# Altium integrated library Altium_SMD_Resister.IntLib: 493 symbols (part 1 of 8)
Pins are listed as number, name and electrical type; pins without a type are passive.

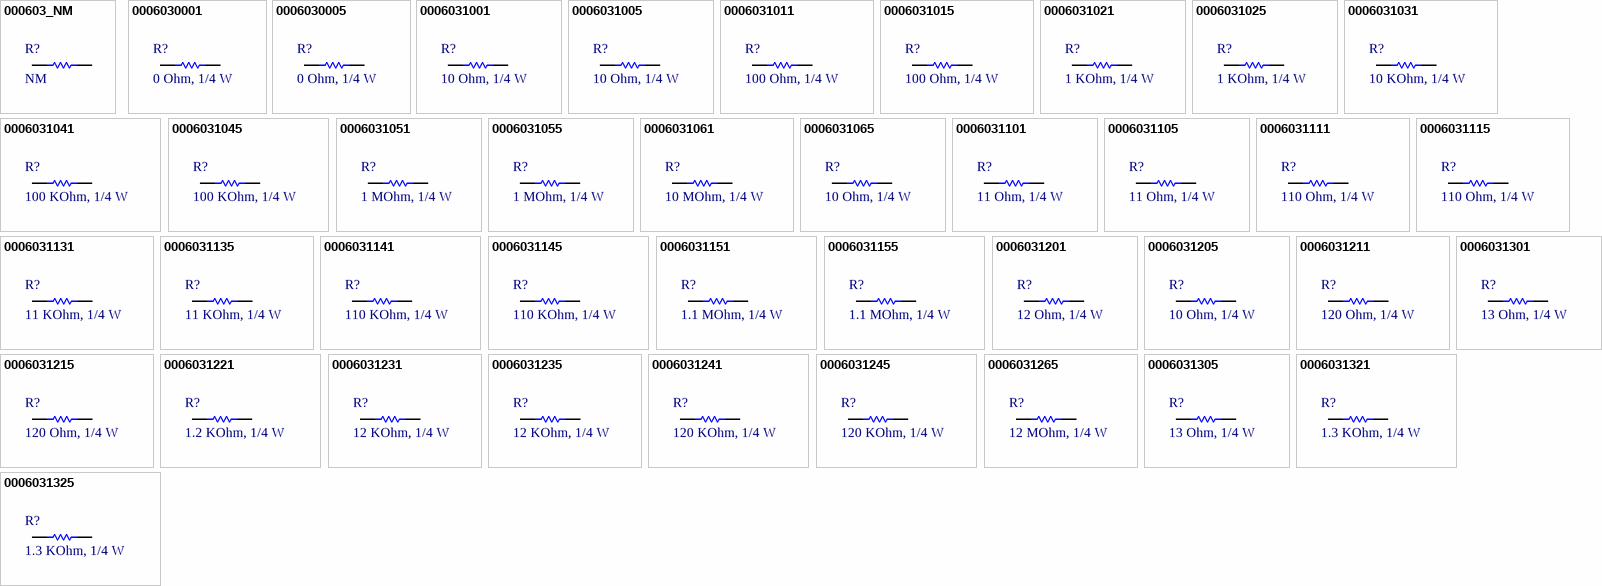
[diagram p0: symbols 000603_NM to 0006031325]

## 000603_NM
designator R?, comment NM
RES, size 0805, NM; Resistance: NM; Resistance Tolerant: N/A; Size: 0603; Rated Power: N/A; Mounting Technology: SMT; Supplier 1 Name: Mouser; Supplier 1 SN: N/A; Supplier 2 Name: Digi-Key; Supplier 2 SN: N/A; Supplier 1 URL: N/A; Supply 2 URL: N/A; Supplier 3 Name: Thegioiic; Supplier 3 SN: N/A; Supplier 3 URL: N/A; Datasheet: N/A; Manufacture  Name: N/A; Manufacture  SN: N/A; Value: NM
footprint resistor_0603
pins: 1, 2

## 0006030001
designator R?, comment 0 Ohm, 1/4 W
RES, size 0805, 0 Ohm, 1/4 W; Manufacture  Name: YAGEO; Manufacture  SN: AC0603FR-070RL; Resistance: 0 Ohm; Resistance Tolerant: +/-1%; Rated Power: 1/4 W; Size: 0603; Mounting Technology: SMT; Supplier 1 Name: Mouser; Supplier 1 SN: 603-AC0603FR-070RL; Supplier 2 Name: Digi-Key; Supplier 2 SN: 311-0.0LDTR-ND; Supplier 1 URL: https://www.mouser.com/ProductDetail/YAGEO/AC0603FR-070RL?qs=sGAEpiMZZMtlubZbdhIBIOG3KwTtqrl%2FD2D%252BGuMCfoY%3D; Supply 2 URL: https://www.digikey.com/en/products/detail/yageo/ac0603fr-070rl/2827812; Supplier 3 Name: Thegioiic; Supplier 3 SN: N/A; Supplier 3 URL: https://www.thegioiic.com/dien-tro-0-ohm-0603-1-; Datasheet: https://www.mouser.com/datasheet/2/447/Yageo_06282023_ACseries-3224032.pdf; Value: 0 Ohm, 1/4 W
footprint resistor_0603
pins: 1, 2

## 0006030005
designator R?, comment 0 Ohm, 1/4 W
RES, size 0805, 0 Ohm, 1/4 W; Manufacture  Name: YAGEO; Manufacture  SN: RC0603JR-070RL; Resistance: 0 Ohm; Resistance Tolerant: +/-1%; Rated Power: 1/4 W; Size: 0603; Mounting Technology: SMT; Supplier 1 Name: Mouser; Supplier 1 SN: 603-RC0603JR-070RL; Supplier 2 Name: Digi-Key; Supplier 2 SN: 311-0.0GRTR-ND; Supplier 1 URL: https://www.mouser.com/ProductDetail/YAGEO/RC0603JR-070RL?qs=2cAdsCoAWRGWyPcuXgGiXQ%3D%3D; Supply 2 URL: https://www.digikey.com/en/products/detail/yageo/rc0603jr-070rl/726675; Supplier 3 Name: Thegioiic; Supplier 3 SN: N/A; Supplier 3 URL: https://www.thegioiic.com/dien-tro-0-ohm-0603-5-; Datasheet: https://www.mouser.com/datasheet/2/447/YAGEO_PYu_RC_Group_51_RoHS_L_12-3313492.pdf; Value: 0 Ohm, 1/4 W
footprint resistor_0603
pins: 1, 2

## 0006031001
designator R?, comment 10 Ohm, 1/4 W
RES, size 0805, 10 Ohm, 1/4 W; Manufacture  Name: YAGEO; Manufacture  SN: SR0603FR-7T10RL; Resistance: 10 Ohm; Resistance Tolerant: +/-1%; Rated Power: 1/4 W; Size: 0603; Mounting Technology: SMT; Supplier 1 Name: Mouser; Supplier 1 SN: 603-SR0603FR-7T10RL; Supplier 2 Name: Digi-Key; Supplier 2 SN: YAG5824TR-ND YAG5824CT-ND YAG5824DKR-ND; Supplier 1 URL: https://www.mouser.vn/ProductDetail/YAGEO/SR0603FR-7T10RL?qs=sGAEpiMZZMvdGkrng054tz1y1XEHv7sNLVh8FRa6mVfbhGJwfIIhGg%3D%3D; Supply 2 URL: https://www.digikey.com/en/products/detail/yageo/SR0603FR-7T10RL/9373098; Supplier 3 Name: Thegioiic; Supplier 3 SN: N/A; Supplier 3 URL: https://www.thegioiic.com/dien-tro-0-ohm-0603-1-; Datasheet: https://www.yageo.com/upload/media/product/productsearch/datasheet/rchip/PYu-SR_20105_RoHS_L_10.pdf; Value: 10 Ohm, 1/4 W
footprint resistor_0603
pins: 1, 2

## 0006031005
designator R?, comment 10 Ohm, 1/4 W
RES, size 0805, 10 Ohm, 1/4 W; Manufacture  Name: Panasonic; Manufacture  SN: ERJ-UP3J100V; Rated Power: 1/4 W; Resistance: 10 Ohm; Resistance Tolerant: +/-5%; Size: 0603; Mounting Technology: SMT; Datasheet: https://www.mouser.vn/datasheet/2/315/Panasonic_Resistors_Thick_Film_Anti_Sulf_Anti_Surg-1825099.pdf; Supplier 1 Name: Mouser; Supplier 1 SN: 667-ERJ-UP3J100V; Supplier 1 URL: https://www.mouser.vn/ProductDetail/Panasonic/ERJ-UP3J100V?qs=GedFDFLaBXHtQF28GWvg8g%3D%3D; Supplier 2 Name: Digi-Key; Supplier 2 SN: 10-ERJ-UP3J100VTR-ND - Tape & Reel (TR); Supply 2 URL: https://www.digikey.com/en/products/detail/panasonic-electronic-components/ERJ-UP3J100V/12092287; Supplier 3 Name: Thegioiic; Supplier 3 SN: N/A; Supplier 3 URL: N/A; Value: 10 Ohm, 1/4 W
footprint resistor_0603
pins: 1, 2

## 0006031011
designator R?, comment 100 Ohm, 1/4 W
RES, size 0805, 100 Ohm, 1/4 W; Manufacture  Name: OEM; Resistance: 100 Ohm; Resistance Tolerant: +/-1%; Rated Power: 1/4 W; Size: 0603; Mounting Technology: SMT; Supplier 1 Name: Mouser; Supplier 1 SN: 603-SR0603FR-7T100RL; Supplier 2 Name: Digi-Key; Supplier 2 SN: YAG5822TR-ND YAG5822CT-ND YAG5822DKR-ND; Supplier 1 URL: https://www.mouser.vn/ProductDetail/YAGEO/SR0603FR-7T100RL?qs=sGAEpiMZZMvdGkrng054tz1y1XEHv7sNOEBvi%2FAEoxbcgRjDGFawVw%3D%3D; Supply 2 URL: https://www.digikey.com/en/products/detail/yageo/SR0603FR-7T100RL/9373096https://www.digikey.com/en/products/detail/yageo/SR0603FR-7T100RL/9373096; Supplier 3 Name: Thegioiic; Supplier 3 SN: N/A; Supplier 3 URL: N/A; Datasheet: https://www.yageo.com/upload/media/product/productsearch/datasheet/rchip/PYu-SR_20105_RoHS_L_10.pdf; Manufacture  SN: OEM; Value: 100 Ohm, 1/4 W
footprint resistor_0603
pins: 1, 2

## 0006031015
designator R?, comment 100 Ohm, 1/4 W
RES, size 0805, 100 Ohm, 1/4 W; Manufacture  Name: Panasonic; Manufacture  SN: ERJ-PA3J101V; Rated Power: 1/4 W; Resistance: 100 Ohm; Resistance Tolerant: +/-5%; Size: 0603; Mounting Technology: SMT; Datasheet: https://www.mouser.vn/datasheet/2/315/AOA0000C331-1141874.pdf; Supplier 1 Name: Mouser; Supplier 1 SN: 667-ERJ-PA3J101V; Supplier 1 URL: https://www.mouser.vn/ProductDetail/Panasonic/ERJ-PA3J101V?qs=sGAEpiMZZMtlubZbdhIBIL24R7XL4VFWZlTxnuJKkJY%3D; Supplier 2 Name: Digi-Key; Supplier 2 SN: P100BZTR-ND - Tape & Reel (TR; Supply 2 URL: https://www.digikey.com/en/products/detail/panasonic-electronic-components/ERJ-PA3J101V/5035969?s=N4IgTCBcDaIGxwOwFoCiAlAUsgCgQQGZMBGABmIDUQBdAXyA; Supplier 3 Name: Thegioiic; Supplier 3 SN: N/A; Supplier 3 URL: https://www.thegioiic.com/dien-tro-100-ohm-1-4w-5-4-vong-mau; Value: 100 Ohm, 1/4 W
footprint resistor_0603
pins: 1, 2

## 0006031021
designator R?, comment 1 KOhm, 1/4 W
RES, size 0805, 1 KOhm, 1/4 W; Manufacture  Name: OEM; Resistance: 1 KOhm; Resistance Tolerant: +/-1%; Rated Power: 1/4 W; Size: 0603; Mounting Technology: SMT; Supplier 1 Name: Mouser; Supplier 1 SN: 71-RCS06031K00FKEA; Supplier 2 Name: Digi-Key; Supplier 2 SN: YAG5829TR-ND YAG5829CT-ND YAG5829DKR-ND; Supplier 1 URL: https://www.mouser.vn/ProductDetail/Vishay-Dale/RCS06031K00FKEA?qs=sGAEpiMZZMvdGkrng054t9clqp6gtJJdzI9PGMrTQi4RTIuHToNahw%3D%3D; Supply 2 URL: https://www.digikey.com/en/products/detail/yageo/SR0603FR-7T1KL/9373103; Supplier 3 Name: Thegioiic; Supplier 3 SN: N/A; Supplier 3 URL: N/A; Datasheet: https://www.yageo.com/upload/media/product/productsearch/datasheet/rchip/PYu-SR_20105_RoHS_L_10.pdf; Manufacture  SN: OEM; Value: 1 KOhm, 1/4 W
footprint resistor_0603
pins: 1, 2

## 0006031025
designator R?, comment 1 KOhm, 1/4 W
RES, size 0805, 1 KOhm, 1/4 W; Manufacture  Name: Panasonic; Manufacture  SN: ERJ-UP3J102V; Rated Power: 1/4 W; Resistance: 1 KOhm; Resistance Tolerant: +/-5%; Size: 0603; Mounting Technology: SMT; Datasheet: https://www.mouser.vn/datasheet/2/315/Panasonic_Resistors_Thick_Film_Anti_Sulf_Anti_Surg-1825099.pdf; Supplier 1 Name: Mouser; Supplier 1 SN: 667-ERJ-UP3J102V; Supplier 1 URL: https://www.mouser.vn/ProductDetail/Panasonic/ERJ-UP3J102V?qs=GedFDFLaBXG0ASpYP%252B3phQ%3D%3D; Supplier 2 Name: Digi-Key; Supplier 2 SN: 667-ERJ-UP3J102V; Supply 2 URL: https://www.mouser.vn/ProductDetail/Panasonic/ERJ-UP3J102V?qs=GedFDFLaBXG0ASpYP%252B3phQ%3D%3D; Supplier 3 Name: Thegioiic; Supplier 3 SN: N/A; Supplier 3 URL: N/A; Value: 1 KOhm, 1/4 W
footprint resistor_0603
pins: 1, 2

## 0006031031
designator R?, comment 10 KOhm, 1/4 W
RES, size 0805, 10 KOhm, 1/4 W; Manufacture  Name: OEM; Resistance: 10 KOhm; Resistance Tolerant: +/-1%; Rated Power: 1/4 W; Size: 0603; Mounting Technology: SMT; Supplier 1 Name: Mouser; Supplier 1 SN: 755-ESR03EZPF1002; Supplier 2 Name: Digi-Key; Supplier 2 SN: RHM10KADTR-ND RHM10KADCT-ND RHM10KADDKR-ND; Supplier 1 URL: https://www.mouser.vn/ProductDetail/ROHM-Semiconductor/ESR03EZPF1002?qs=sGAEpiMZZMvdGkrng054t67Efho1F8r6CDeAsqwFse8%3D; Supply 2 URL: https://www.digikey.com/en/products/detail/rohm-semiconductor/ESR03EZPF1002/1983429; Supplier 3 Name: Thegioiic; Supplier 3 SN: N/A; Supplier 3 URL: N/A; Datasheet: https://fscdn.rohm.com/en/products/databook/datasheet/passive/resistor/chip_resistor/esr-e.pdf; Manufacture  SN: OEM; Value: 10 KOhm, 1/4 W
footprint resistor_0603
pins: 1, 2

## 0006031041
designator R?, comment 100 KOhm, 1/4 W
RES, size 0805, 100 KOhm, 1/4 W; Manufacture  Name: OEM; Resistance Tolerant: +/-1%; Rated Power: 1/4 W; Resistance: 100 KOhm; Size: 0603; Mounting Technology: SMT; Supplier 1 Name: Mouser; Supplier 1 SN: 603-SR0603FR-7T100KL; Supplier 2 Name: Digi-Key; Supplier 2 SN: YAG5821TR-ND YAG5821CT-ND YAG5821DKR-ND; Supplier 1 URL: https://www.mouser.vn/ProductDetail/YAGEO/SR0603FR-7T100KL?qs=sGAEpiMZZMvdGkrng054tz1y1XEHv7sNa%252BA%2F4WiDMf7aGw4zRBb%2FFQ%3D%3D; Supply 2 URL: https://www.digikey.com/en/products/detail/yageo/SR0603FR-7T100KL/9373095; Supplier 3 Name: Thegioiic; Supplier 3 SN: N/A; Supplier 3 URL: N/A; Datasheet: https://www.yageo.com/upload/media/product/productsearch/datasheet/rchip/PYu-SR_20105_RoHS_L_10.pdf; Manufacture  SN: OEM; Value: 100 KOhm, 1/4 W
footprint resistor_0603
pins: 1, 2

## 0006031045
designator R?, comment 100 KOhm, 1/4 W
RES, size 0805, 100 KOhm, 1/4 W; Manufacture  Name: Panasonic; Manufacture  SN: ERJ-UP3J104V; Rated Power: 1/4 W; Resistance Tolerant: +/-5%; Size: 0603; Mounting Technology: SMT; Datasheet: https://www.mouser.vn/datasheet/2/315/Panasonic_Resistors_Thick_Film_Anti_Sulf_Anti_Surg-1825099.pdf; Resistance: 100 KOhm; Supplier 1 Name: Mouser; Supplier 1 SN: 667-ERJ-UP3J104V; Supplier 1 URL: https://www.mouser.vn/ProductDetail/Panasonic/ERJ-UP3J104V?qs=GedFDFLaBXGDblK28z0pnQ%3D%3D; Supplier 2 Name: Digi-Key; Supplier 2 SN: 10-ERJ-UP3J104VTR-ND - Tape & Reel (TR); Supply 2 URL: https://www.digikey.com/en/products/detail/panasonic-electronic-components/ERJ-UP3J104V/12092096?s=N4IgTCBcDaIGxwOwFoCiAlAUsgqgBQGZMBGABgBYA1EAXQF8g; Supplier 3 Name: Thegioiic; Supplier 3 SN: N/A; Supplier 3 URL: https://www.thegioiic.com/dien-tro-100-kohm-0603-5; Value: 100 KOhm, 1/4 W
footprint resistor_0603
pins: 1, 2

## 0006031051
designator R?, comment 1 MOhm, 1/4 W
RES, size 0805, 1 MOhm, 1/4 W; Manufacture  Name: OEM; Resistance: 1 MOhm; Resistance Tolerant: +/-1%; Rated Power: 1/4 W; Size: 0603; Mounting Technology: SMT; Supplier 1 Name: Mouser; Supplier 1 SN: 71-RCS06031M00FKEA; Supplier 2 Name: Digi-Key; Supplier 2 SN: 541-2803-2-ND 541-2803-1-ND 541-2803-6-ND; Supplier 1 URL: https://www.mouser.vn/ProductDetail/Vishay-Dale/RCS06031M00FKEA?qs=sGAEpiMZZMvdGkrng054t9clqp6gtJJdWojIF5doOmwdMUlAJJ6Dlw%3D%3D; Supply 2 URL: https://www.digikey.com/en/products/detail/vishay-dale/RCS06031M00FKEA/5866949; Supplier 3 Name: Thegioiic; Supplier 3 SN: N/A; Supplier 3 URL: N/A; Datasheet: https://www.vishay.com/docs/20065/rcse3.pdf; Manufacture  SN: OEM; Value: 1 MOhm, 1/4 W
footprint resistor_0603
pins: 1, 2

## 0006031055
designator R?, comment 1 MOhm, 1/4 W
RES, size 0805, 1 MOhm, 1/4 W; Manufacture  Name: Panasonic; Manufacture  SN: ERJ-UP3J105V; Rated Power: 1/4 W; Resistance: 1 MOhm; Resistance Tolerant: +/-5%; Size: 0603; Mounting Technology: SMT; Datasheet: https://www.mouser.vn/datasheet/2/315/Panasonic_Resistors_Thick_Film_Anti_Sulf_Anti_Surg-1825099.pdf; Supplier 1 Name: Mouser; Supplier 1 SN: 667-ERJ-UP3J105V; Supplier 1 URL: https://www.mouser.vn/ProductDetail/Panasonic/ERJ-UP3J105V?qs=GedFDFLaBXGINFBXL6YStg%3D%3D; Supplier 2 Name: Digi-Key; Supplier 2 SN: 10-ERJ-UP3J105VTR-ND - Tape & Reel (TR); Supply 2 URL: https://www.digikey.com/en/products/detail/panasonic-electronic-components/ERJ-UP3J105V/12092177?s=N4IgTCBcDaIGxwOwFoCiAlAUsgqgBQGZMBGABgFYA1EAXQF8g; Supplier 3 Name: Thegioiic; Supplier 3 SN: N/A; Supplier 3 URL: N/A; Value: 1 MOhm, 1/4 W
footprint resistor_0603
pins: 1, 2

## 0006031061
designator R?, comment 10 MOhm, 1/4 W
RES, size 0805, 10 MOhm, 1/4 W; Manufacture  Name: OEM; Resistance: 10 MOhm; Resistance Tolerant: +/-1%; Rated Power: 1/4 W; Size: 0603; Mounting Technology: SMT; Supplier 1 Name: Mouser; Supplier 1 SN: 71-RCS060310M0FKEA; Supplier 2 Name: Digi-Key; Supplier 2 SN: 541-2804-2-ND 541-2804-1-ND 541-2804-6-ND; Supplier 1 URL: https://www.mouser.vn/ProductDetail/Vishay-Dale/RCS060310M0FKEA?qs=sGAEpiMZZMvdGkrng054t9clqp6gtJJdahPuycv0ny4pNSNwsAhz7w%3D%3D; Supply 2 URL: https://www.digikey.com/en/products/detail/vishay-dale/RCS060310M0FKEA/5866950; Supplier 3 Name: Thegioiic; Supplier 3 SN: N/A; Supplier 3 URL: N/A; Datasheet: https://www.vishay.com/docs/20065/rcse3.pdf; Manufacture  SN: OEM; Value: 10 MOhm, 1/4 W
footprint resistor_0603
pins: 1, 2

## 0006031065
designator R?, comment 10 Ohm, 1/4 W
RES, size 0805, 10 Ohm, 1/4 W; Manufacture  Name: Panasonic; Manufacture  SN: ERJ-UP3J100V; Rated Power: 1/4 W; Resistance: 10 Ohm; Resistance Tolerant: +/-5%; Size: 0603; Mounting Technology: SMT; Datasheet: https://www.mouser.vn/datasheet/2/315/Panasonic_Resistors_Thick_Film_Anti_Sulf_Anti_Surg-1825099.pdf; Supplier 1 Name: Mouser; Supplier 1 SN: 667-ERJ-UP3J100V; Supplier 1 URL: https://www.mouser.vn/ProductDetail/Panasonic/ERJ-UP3J100V?qs=GedFDFLaBXHtQF28GWvg8g%3D%3D; Supplier 2 Name: Digi-Key; Supplier 2 SN: 10-ERJ-UP3J100VTR-ND - Tape & Reel (TR); Supply 2 URL: https://www.digikey.com/en/products/detail/panasonic-electronic-components/ERJ-UP3J100V/12092287; Supplier 3 Name: Thegioiic; Supplier 3 SN: N/A; Supplier 3 URL: N/A; Value: 10 Ohm, 1/4 W
footprint resistor_0603
pins: 1, 2

## 0006031101
designator R?, comment 11 Ohm, 1/4 W
RES, size 0805, 11 Ohm, 1/4 W; Manufacture  Name: OEM; Rated Power: 1/4 W; Resistance: 11 Ohm; Resistance Tolerant: +/-1%; Size: 0603; Mounting Technology: SMT; Datasheet: N/A; Supplier 1 Name: Mouser; Supplier 1 SN: 667-ERJ-H3EF11R0V; Supplier 1 URL: https://www.mouser.vn/ProductDetail/Panasonic/ERJ-H3EF11R0V?qs=sGAEpiMZZMtlubZbdhIBIGXWvNSLmQjehAx4Ifbz%252Bvw%3D; Supplier 2 Name: Digi-Key; Supplier 2 SN: 311-11.0HRTR-ND; Supply 2 URL: https://www.digikey.com/en/products/detail/yageo/RC0603FR-0711RL/726896; Supplier 3 Name: Thegioiic; Supplier 3 SN: N/A; Supplier 3 URL: N/A; Manufacture  SN: OEM; Value: 11 Ohm, 1/4 W
footprint resistor_0603
pins: 1, 2

## 0006031105
designator R?, comment 11 Ohm, 1/4 W
RES, size 0805, 11 Ohm, 1/4 W; Manufacture  Name: Panasonic; Manufacture  SN: ERJ-PA3J110V; Rated Power: 1/4 W; Resistance: 11 Ohm; Resistance Tolerant: +/-5%; Size: 0603; Mounting Technology: SMT; Datasheet: https://www.mouser.vn/datasheet/2/315/AOA0000C331-1141874.pdf; Supplier 1 Name: Mouser; Supplier 1 SN: 667-ERJ-PA3J110V; Supplier 1 URL: https://www.mouser.vn/ProductDetail/Panasonic/ERJ-PA3J110V?qs=BzJM0faLVqUVJCFpF2esuw%3D%3D; Supplier 2 Name: Digi-Key; Supplier 2 SN: P11.00BZTR-ND - Tape & Reel (TR); Supply 2 URL: https://www.digikey.com/en/products/detail/panasonic-electronic-components/ERJ-PA3J110V/5035974?s=N4IgTCBcDaIKICUBSBaACgQQMxIIy4AYA1EAXQF8g; Supplier 3 Name: Thegioiic; Supplier 3 SN: N/A; Supplier 3 URL: N/A; Value: 11 Ohm, 1/4 W
footprint resistor_0603
pins: 1, 2

## 0006031111
designator R?, comment 110 Ohm, 1/4 W
RES, size 0805, 110 Ohm, 1/4 W; Manufacture  Name: OEM; Rated Power: 1/4 W; Resistance: 110 Ohm; Resistance Tolerant: +/-1%; Size: 0603; Mounting Technology: SMT; Datasheet: N/A; Supplier 1 Name: Mouser; Supplier 1 SN: 755-SDR03EZPF1100; Supplier 1 URL: https://www.mouser.vn/ProductDetail/ROHM-Semiconductor/SDR03EZPF1100?qs=sGAEpiMZZMtlubZbdhIBIK8AeiPKd8jI%252BjeyNdNREGg%3D; Supplier 2 Name: Digi-Key; Supplier 2 SN: 13-RC0603FR-13110RLTR-ND; Supply 2 URL: https://www.digikey.com/en/products/detail/yageo/RC0603FR-13110RL/14286378; Supplier 3 Name: Thegioiic; Supplier 3 SN: N/A; Supplier 3 URL: N/A; Manufacture  SN: OEM; Value: 110 Ohm, 1/4 W
footprint resistor_0603
pins: 1, 2

## 0006031115
designator R?, comment 110 Ohm, 1/4 W
RES, size 0805, 110 Ohm, 1/4 W; Manufacture  Name: Panasonic; Manufacture  SN: ERJ-PA3J111V; Rated Power: 1/4 W; Resistance: 110 Ohm; Resistance Tolerant: +/-5%; Size: 0603; Mounting Technology: SMT; Datasheet: https://www.mouser.vn/datasheet/2/315/AOA0000C331-1141874.pdf; Supplier 1 Name: Mouser; Supplier 1 SN: 667-ERJ-PA3J111V; Supplier 1 URL: https://www.mouser.vn/ProductDetail/Panasonic/ERJ-PA3J111V?qs=BzJM0faLVqVWsrK26X2SBg%3D%3D; Supplier 2 Name: Digi-Key; Supplier 2 SN: P110BZTR-ND - Tape & Reel (TR); Supply 2 URL: https://www.digikey.com/en/products/detail/panasonic-electronic-components/ERJ-PA3J110V/5035974?s=N4IgTCBcDaIKICUBSBaACgQQMxIIy4AYA1EAXQF8g; Supplier 3 Name: Thegioiic; Supplier 3 SN: N/A; Supplier 3 URL: N/A; Value: 110 Ohm, 1/4 W
footprint resistor_0603
pins: 1, 2

## 0006031131
designator R?, comment 11 KOhm, 1/4 W
RES, size 0805, 11 KOhm, 1/4 W; Manufacture  Name: OEM; Rated Power: 1/4 W; Resistance: 11 KOhm; Resistance Tolerant: +/-1%; Size: 0603; Mounting Technology: SMT; Datasheet: N/A; Supplier 1 Name: Mouser; Supplier 1 SN: 755-SDR03EZPF1102; Supplier 1 URL: https://www.mouser.vn/ProductDetail/ROHM-Semiconductor/SDR03EZPF1102?qs=sGAEpiMZZMtlubZbdhIBIPTwcdbU5mXWlesgK7T9hPY%3D; Supplier 2 Name: Digi-Key; Supplier 2 SN: 311-11.0KHRTR-ND; Supply 2 URL: https://www.digikey.com/en/products/detail/yageo/RC0603FR-0711KL/726897; Supplier 3 Name: Thegioiic; Supplier 3 SN: N/A; Supplier 3 URL: N/A; Manufacture  SN: OEM; Value: 11 KOhm, 1/4 W
footprint resistor_0603
pins: 1, 2

## 0006031135
designator R?, comment 11 KOhm, 1/4 W
RES, size 0805, 11 KOhm, 1/4 W; Manufacture  Name: Panasonic; Manufacture  SN: ERJ-PA3J113V; Rated Power: 1/4 W; Resistance: 11 KOhm; Resistance Tolerant: +/-5%; Size: 0603; Mounting Technology: SMT; Datasheet: https://www.mouser.vn/datasheet/2/315/AOA0000C331-1141874.pdf; Supplier 1 Name: Mouser; Supplier 1 SN: ERJ-PA3J113V; Supplier 1 URL: https://www.mouser.vn/ProductDetail/Panasonic/ERJ-PA3J113V?qs=BzJM0faLVqVM8QjVQI3mRg%3D%3D; Supplier 2 Name: Digi-Key; Supplier 2 SN: P11KBZTR-ND - Tape & Reel (TR); Supply 2 URL: https://www.digikey.com/en/products/detail/panasonic-electronic-components/ERJ-PA3J113V/5035977?s=N4IgTCBcDaIGxwOwFoCiAlAUsgCgQQGZMBGYggNRAF0BfIA; Supplier 3 Name: Thegioiic; Supplier 3 SN: N/A; Supplier 3 URL: N/A; Value: 11 KOhm, 1/4 W
footprint resistor_0603
pins: 1, 2

## 0006031141
designator R?, comment 110 KOhm, 1/4 W
RES, size 0805, 110 KOhm, 1/4 W; Manufacture  Name: OEM; Rated Power: 1/4 W; Resistance Tolerant: +/-1%; Size: 0603; Mounting Technology: SMT; Datasheet: N/A; Resistance: 110 KOhm; Supplier 1 Name: Mouser; Supplier 1 SN: 667-ERJ-H3EF1103V; Supplier 1 URL: https://www.mouser.vn/ProductDetail/Panasonic/ERJ-H3EF1103V?qs=sGAEpiMZZMtlubZbdhIBIGXWvNSLmQjenhRG9dQSCBk%3D; Supplier 2 Name: Digi-Key; Supplier 2 SN: 311-110KHRTR-ND; Supply 2 URL: https://www.digikey.com/en/products/detail/yageo/RC0603FR-07110KL/726905; Supplier 3 Name: Thegioiic; Supplier 3 SN: N/A; Supplier 3 URL: N/A; Manufacture  SN: OEM; Value: 110 KOhm, 1/4 W
footprint resistor_0603
pins: 1, 2

## 0006031145
designator R?, comment 110 KOhm, 1/4 W
RES, size 0805, 110 KOhm, 1/4 W; Manufacture  Name: Panasonic; Manufacture  SN: ERJ-PA3J114V; Rated Power: 1/4 W; Resistance Tolerant: +/-5%; Size: 0603; Mounting Technology: SMT; Datasheet: https://www.mouser.vn/datasheet/2/315/AOA0000C331-1141874.pdf; Resistance: 110 KOhm; Supplier 1 Name: Mouser; Supplier 1 SN: 667-ERJ-PA3J114V; Supplier 1 URL: https://www.mouser.vn/ProductDetail/Panasonic/ERJ-PA3J114V?qs=BzJM0faLVqW9SUUBohRIoQ%3D%3D; Supplier 2 Name: Digi-Key; Supplier 2 SN: P110KBZTR-ND - Tape & Reel (TR); Supply 2 URL: https://www.digikey.com/en/products/detail/panasonic-electronic-components/ERJ-PA3J114V/5035978?s=N4IgTCBcDaIGxwOwFoCiAlAUsgCgQQGZMBGYgFgDUQBdAXyA; Supplier 3 Name: Thegioiic; Supplier 3 SN: N/A; Supplier 3 URL: N/A; Value: 110 KOhm, 1/4 W
footprint resistor_0603
pins: 1, 2

## 0006031151
designator R?, comment 1.1 MOhm, 1/4 W
RES, size 0805, 1.1 MOhm, 1/4 W; Manufacture  Name: OEM; Resistance Tolerant: +/-1%; Rated Power: 1/4 W; Resistance: 1.1 MOhm; Size: 0603; Mounting Technology: SMT; Supplier 1 Name: Mouser; Supplier 1 SN: 755-ESR03EZPF1104; Supplier 2 Name: Digi-Key; Supplier 2 SN: ESR03EZPF1104-ND; Supplier 1 URL: https://www.mouser.vn/ProductDetail/ROHM-Semiconductor/ESR03EZPF1104?qs=sGAEpiMZZMvdGkrng054tywGjayRHxH2NDi0T%2FrU%252Bi%2FZqTg7cSJ0BA%3D%3D; Supply 2 URL: https://www.digikey.com/en/products/detail/rohm-semiconductor/ESR03EZPF1104/4007150?s=N4IgjCBcoExaBjKAzAhgGwM4FMA0IB7KAbXADYBWAFgGYQBdfABwBcoQBlFgJwEsA7AOYgAvvjrQQSSGix5CJcGBoRGIVuy58ho-GBgBOCJOmyc%2BIpFI0DMKhQbM2kTjwHCxIGAAYAHA5MUDHMFK3AAOjAAAgBZAHkACwBbTEd1ZxAAVX5eFjjkGOxUTABXbmxRTzgw8sxeTBYCbgYRIA; Supplier 3 Name: Thegioiic; Supplier 3 SN: N/A; Supplier 3 URL: N/A; Datasheet: https://www.mouser.vn/datasheet/2/348/ROHM_S_A0011075102_1-2563252.pdf; Manufacture  SN: OEM; Value: 1.1 MOhm, 1/4 W
footprint resistor_0603
pins: 1, 2

## 0006031155
designator R?, comment 1.1 MOhm, 1/4 W
RES, size 0805, 1.1 MOhm, 1/4 W; Manufacture  Name: Panasonic; Manufacture  SN: ERJ-PA3J115V; Rated Power: 1/4 W; Resistance Tolerant: +/-5%; Size: 0603; Mounting Technology: SMT; Datasheet: https://www.mouser.vn/datasheet/2/315/AOA0000C331-1141874.pdf; Resistance: 1.1 MOhm; Supplier 1 Name: Mouser; Supplier 1 SN: 667-ERJ-PA3J115V; Supplier 1 URL: https://www.mouser.vn/ProductDetail/Panasonic/ERJ-PA3J115V?qs=qSfuJ%252Bfl%2Fd52nzS52dr8qA%3D%3D; Supplier 2 Name: Digi-Key; Supplier 2 SN: P124098TR-ND - Tape & Reel (TR); Supply 2 URL: https://www.digikey.com/en/products/detail/panasonic-electronic-components/ERJ-PA3J115V/9694904?s=N4IgTCBcDaIGxwOwFoCiAlAUsgCgQQGZMBGYgVgDUQBdAXyA; Supplier 3 Name: Thegioiic; Supplier 3 SN: N/A; Supplier 3 URL: N/A; Value: 1.1 MOhm, 1/4 W
footprint resistor_0603
pins: 1, 2

## 0006031201
designator R?, comment 12 Ohm, 1/4 W
RES, size 0805, 12 Ohm, 1/4 W; Manufacture  Name: OEM; Resistance: 12 Ohm; Resistance Tolerant: +/-1%; Rated Power: 1/4 W; Size: 0603; Mounting Technology: SMT; Supplier 1 Name: Mouser; Supplier 1 SN: 71-RCS060312R0FKEA; Supplier 2 Name: Digi-Key; Supplier 2 SN: 541-10429-2-ND 541-10429-1-ND 541-10429-6-ND; Supplier 1 URL: https://www.mouser.vn/ProductDetail/Vishay-Dale/RCS060312R0FKEA?qs=sGAEpiMZZMvdGkrng054txfS%2FhNqc3c5FTsHeTNyRUP0%2FMnOe8KtUg%3D%3D; Supply 2 URL: https://www.digikey.com/en/products/detail/vishay-dale/RCS060312R0FKEA/5868272; Supplier 3 Name: Thegioiic; Supplier 3 SN: N/A; Supplier 3 URL: N/A; Datasheet: https://www.vishay.com/docs/20065/rcse3.pdf; Manufacture  SN: OEM; Value: 12 Ohm, 1/4 W
footprint resistor_0603
pins: 1, 2

## 0006031205
designator R?, comment 10 Ohm, 1/4 W
RES, size 0805, 10 Ohm, 1/4 W; Manufacture  Name: Panasonic; Manufacture  SN: ERJ-PA3J120V; Rated Power: 1/4 W; Resistance: 10 Ohm; Resistance Tolerant: +/-5%; Size: 0603; Mounting Technology: SMT; Datasheet: https://www.mouser.vn/datasheet/2/315/AOA0000C331-1141874.pdf; Supplier 1 Name: Mouser; Supplier 1 SN: https://www.mouser.vn/ProductDetail/Panasonic/ERJ-PA3J120V?qs=BzJM0faLVqW1x3yhFHUqTw%3D%3D; Supplier 1 URL: https://www.mouser.vn/ProductDetail/Panasonic/ERJ-PA3J120V?qs=BzJM0faLVqW1x3yhFHUqTw%3D%3D; Supplier 2 Name: Digi-Key; Supplier 2 SN: P12.00BZTR-ND - Tape & Reel (TR); Supply 2 URL: https://www.digikey.com/en/products/detail/panasonic-electronic-components/ERJ-PA3J120V/5035979?s=N4IgTCBcDaIGxwOwFoCiAlAUsgCgQQGZMBGMABgDUQBdAXyA; Supplier 3 Name: Thegioiic; Supplier 3 SN: N/A; Supplier 3 URL: https://www.thegioiic.com/dien-tro-12-ohm-0603-5-; Value: 10 Ohm, 1/4 W
footprint resistor_0603
pins: 1, 2

## 0006031211
designator R?, comment 120 Ohm, 1/4 W
RES, size 0805, 120 Ohm, 1/4 W; Manufacture  Name: OEM; Resistance: 120 Ohm; Resistance Tolerant: +/-1%; Rated Power: 1/4 W; Size: 0603; Mounting Technology: SMT; Supplier 1 Name: Mouser; Supplier 1 SN: 603-SR0603FR-7T120RL; Supplier 2 Name: Digi-Key; Supplier 2 SN: YAG5825TR-ND YAG5825CT-ND YAG5825DKR-ND; Supplier 1 URL: https://www.mouser.vn/ProductDetail/YAGEO/SR0603FR-7T120RL?qs=sGAEpiMZZMvdGkrng054tz1y1XEHv7sNpzSbq0ZWZmOggb8s%252BZMxlg%3D%3D; Supply 2 URL: https://www.digikey.com/en/products/detail/yageo/SR0603FR-7T120RL/9373099; Supplier 3 Name: Thegioiic; Supplier 3 SN: N/A; Supplier 3 URL: N/A; Datasheet: https://www.yageo.com/upload/media/product/productsearch/datasheet/rchip/PYu-SR_20105_RoHS_L_10.pdf; Manufacture  SN: OEM; Value: 120 Ohm, 1/4 W
footprint resistor_0603
pins: 1, 2

## 0006031215
designator R?, comment 120 Ohm, 1/4 W
RES, size 0805, 120 Ohm, 1/4 W; Manufacture  Name: Panasonic; Manufacture  SN: ERJ-PA3J121V; Rated Power: 1/4 W; Resistance: 120 Ohm; Resistance Tolerant: +/-5%; Size: 0603; Mounting Technology: SMT; Datasheet: https://www.mouser.vn/datasheet/2/315/AOA0000C331-1141874.pdf; Supplier 1 Name: Mouser; Supplier 1 SN: 667-ERJ-PA3J121V; Supplier 1 URL: https://www.mouser.vn/ProductDetail/Panasonic/ERJ-PA3J121V?qs=BzJM0faLVqUskHAfNBlRjA%3D%3D; Supplier 2 Name: Digi-Key; Supplier 2 SN: P120BZTR-ND - Tape & Reel (TR); Supply 2 URL: https://www.digikey.com/en/products/detail/panasonic-electronic-components/ERJ-PA3J121V/5035980?s=N4IgTCBcDaIGxwOwFoCiAlAUsgCgQQGZMBGMYgNRAF0BfIA; Supplier 3 Name: Thegioiic; Supplier 3 SN: N/A; Supplier 3 URL: https://www.thegioiic.com/dien-tro-120-ohm-0603-5; Value: 120 Ohm, 1/4 W
footprint resistor_0603
pins: 1, 2

## 0006031221
designator R?, comment 1.2 KOhm, 1/4 W
RES, size 0805, 1.2 KOhm, 1/4 W; Manufacture  Name: OEM; Resistance Tolerant: +/-1%; Rated Power: 1/4 W; Resistance: 1.2 KOhm; Size: 0603; Mounting Technology: SMT; Supplier 1 Name: Mouser; Supplier 1 SN: 667-ERJ-UP3F1201V; Supplier 2 Name: Digi-Key; Supplier 2 SN: 10-ERJ-UP3F1201VTR-ND 10-ERJ-UP3F1201VCT-ND 10-ERJ-UP3F1201VDKR-ND; Supplier 1 URL: https://www.mouser.vn/ProductDetail/Panasonic/ERJ-UP3F1201V?qs=sGAEpiMZZMvdGkrng054twq3eZrCFN895BO3G72d%2F02jECAea43bgQ%3D%3D; Supply 2 URL: N/A; Supplier 3 Name: Thegioiic; Supplier 3 SN: N/A; Supplier 3 URL: N/A; Datasheet: https://api.pim.na.industrial.panasonic.com/file_stream/main/fileversion/4484; Manufacture  SN: OEM; Value: 1.2 KOhm, 1/4 W
footprint resistor_0603
pins: 1, 2

## 0006031231
designator R?, comment 12 KOhm, 1/4 W
RES, size 0805, 12 KOhm, 1/4 W; Manufacture  Name: OEM; Resistance: 12 KOhm; Resistance Tolerant: +/-1%; Rated Power: 1/4 W; Size: 0603; Mounting Technology: SMT; Supplier 1 Name: Mouser; Supplier 1 SN: 71-RCS060312K0FKEA; Supplier 2 Name: Digi-Key; Supplier 2 SN: 541-10428-2-ND 541-10428-1-ND 541-10428-6-ND; Supplier 1 URL: https://www.mouser.vn/ProductDetail/Vishay-Dale/RCS060312K0FKEA?qs=sGAEpiMZZMvdGkrng054t9clqp6gtJJdYU2CGrvXFnAdCOf%2F3daJvA%3D%3D; Supply 2 URL: https://www.digikey.com/en/products/detail/vishay-dale/RCS060312K0FKEA/5868600; Supplier 3 Name: Thegioiic; Supplier 3 SN: N/A; Supplier 3 URL: N/A; Datasheet: https://www.vishay.com/doc?20065; Manufacture  SN: OEM; Value: 12 KOhm, 1/4 W
footprint resistor_0603
pins: 1, 2

## 0006031235
designator R?, comment 12 KOhm, 1/4 W
RES, size 0805, 12 KOhm, 1/4 W; Manufacture  Name: Panasonic; Rated Power: 1/4 W; Resistance: 12 KOhm; Resistance Tolerant: +/-5%; Size: 0603; Mounting Technology: SMT; Datasheet: https://www.mouser.vn/datasheet/2/315/AOA0000C331-1141874.pdf; Supplier 1 Name: Mouser; Supplier 1 SN: 667-ERJ-PA3J123V; Supplier 1 URL: https://www.mouser.vn/ProductDetail/Panasonic/ERJ-PA3J123V?qs=BzJM0faLVqUmhFLBcKz%2F9g%3D%3D; Supplier 2 Name: Digi-Key; Supplier 2 SN: P12KBZTR-ND - Tape & Reel (TR); Supply 2 URL: https://www.digikey.com/en/products/detail/panasonic-electronic-components/ERJ-PA3J123V/5035982?s=N4IgTCBcDaIGxwOwFoCiAlAUsgCgQQGZMBGMAgNRAF0BfIA; Supplier 3 Name: Thegioiic; Supplier 3 SN: N/A; Supplier 3 URL: https://www.thegioiic.com/dien-tro-12-kohm-0603-5; Value: 12 KOhm, 1/4 W
footprint resistor_0603
pins: 1, 2

## 0006031241
designator R?, comment 120 KOhm, 1/4 W
RES, size 0805, 120 KOhm, 1/4 W; Manufacture  Name: OEM; Resistance Tolerant: +/-1%; Rated Power: 1/4 W; Resistance: 120 KOhm; Size: 0603; Mounting Technology: SMT; Supplier 1 Name: Mouser; Supplier 1 SN: 279-CRGP0603F120K; Supplier 2 Name: Digi-Key; Supplier 2 SN: A130441TR-ND A130441CT-ND A130441DKR-ND; Supplier 1 URL: https://www.mouser.vn/ProductDetail/TE-Connectivity-Holsworthy/CRGP0603F120K?qs=sGAEpiMZZMvdGkrng054tz1y1XEHv7sN3VL4vdyfLgCsGGuTshbYRg%3D%3D; Supply 2 URL: https://www.digikey.com/en/products/detail/te-connectivity-passive-product/CRGP0603F120K/8577043; Supplier 3 Name: Thegioiic; Supplier 3 SN: N/A; Supplier 3 URL: N/A; Datasheet: https://www.te.com/usa-en/product-5-2176326-0.datasheet.pdf; Manufacture  SN: OEM; Value: 120 KOhm, 1/4 W
footprint resistor_0603
pins: 1, 2

## 0006031245
designator R?, comment 120 KOhm, 1/4 W
RES, size 0805, 120 KOhm, 1/4 W; Manufacture  Name: Panasonic; Manufacture  SN: ERJ-PA3J124V; Rated Power: 1/4 W; Resistance Tolerant: +/-5%; Size: 0603; Mounting Technology: SMT; Datasheet: https://www.mouser.vn/datasheet/2/315/AOA0000C331-1141874.pdf; Resistance: 120 KOhm; Supplier 1 Name: Mouser; Supplier 1 SN: 667-ERJ-PA3J124V; Supplier 1 URL: https://www.mouser.vn/ProductDetail/Panasonic/ERJ-PA3J124V?qs=BzJM0faLVqW0tp%252B4qebUxw%3D%3D; Supplier 2 Name: Digi-Key; Supplier 2 SN: P120KBZTR-ND - Tape & Reel (TR); Supply 2 URL: https://www.digikey.com/en/products/detail/panasonic-electronic-components/ERJ-PA3J124V/5035983?s=N4IgTCBcDaIGxwOwFoCiAlAUsgCgQQGZMBGMAFgDUQBdAXyA; Supplier 3 Name: Thegioiic; Supplier 3 SN: N/A; Supplier 3 URL: https://www.thegioiic.com/dien-tro-120-kohm-0603-5; Value: 120 KOhm, 1/4 W
footprint resistor_0603
pins: 1, 2

## 0006031265
designator R?, comment 12 MOhm, 1/4 W
RES, size 0805, 12 MOhm, 1/4 W; Manufacture  Name: OEM; Rated Power: 1/4 W; Resistance: 12 MOhm; Resistance Tolerant: +/-5%; Size: 0603; Mounting Technology: SMT; Datasheet: https://www.mouser.vn/datasheet/2/315/Panasonic_Resistors_Thick_Film_Anti_Sulf_Anti_Surg-1825099.pdf; Supplier 1 Name: Mouser; Supplier 1 SN: N/A; Supplier 1 URL: N/A; Supplier 2 Name: Digi-Key; Supplier 2 SN: N/A; Supply 2 URL: N/A; Supplier 3 Name: Thegioiic; Supplier 3 SN: N/A; Supplier 3 URL: N/A; Manufacture  SN: OEM; Value: 12 MOhm, 1/4 W
footprint resistor_0603
pins: 1, 2

## 0006031301
designator R?, comment 13 Ohm, 1/4 W
RES, size 0805, 13 Ohm, 1/4 W; Manufacture  Name: OEM; Rated Power: 1/4 W; Resistance: 13 Ohm; Resistance Tolerant: +/-1%; Size: 0603; Mounting Technology: SMT; Datasheet: N/A; Supplier 1 Name: Mouser; Supplier 1 SN: 667-ERJ-H3EF13R0V; Supplier 1 URL: https://www.mouser.vn/ProductDetail/Panasonic/ERJ-H3EF13R0V?qs=eP2BKZSCXI6cMaSES3PMrQ%3D%3D; Supplier 2 Name: Digi-Key; Supplier 2 SN: 13-RC0603FR-1313RL-ND; Supply 2 URL: https://www.digikey.com/en/products/detail/yageo/RC0603FR-1313RL/17017125; Supplier 3 Name: Thegioiic; Supplier 3 SN: N/A; Supplier 3 URL: N/A; Manufacture  SN: OEM; Value: 13 Ohm, 1/4 W
footprint resistor_0603
pins: 1, 2

## 0006031305
designator R?, comment 13 Ohm, 1/4 W
RES, size 0805, 13 Ohm, 1/4 W; Manufacture  Name: Panasonic; Manufacture  SN: ERJ-PA3J130V; Rated Power: 1/4 W; Resistance: 13 Ohm; Resistance Tolerant: +/-5%; Size: 0603; Mounting Technology: SMT; Datasheet: https://www.mouser.vn/datasheet/2/315/AOA0000C331-1141874.pdf; Supplier 1 Name: Mouser; Supplier 1 SN: 667-ERJ-PA3J130V; Supplier 1 URL: https://www.digikey.com/en/products/detail/panasonic-electronic-components/ERJ-PA3J130V/5035984?s=N4IgTCBcDaIGxwOwFoCiAlAUsgCgQQGZMBGAgBgDUQBdAXyA; Supplier 2 Name: Digi-Key; Supplier 2 SN: P13.00BZTR-ND - Tape & Reel (TR); Supply 2 URL: https://www.digikey.com/en/products/detail/panasonic-electronic-components/ERJ-PA3J130V/5035984?s=N4IgTCBcDaIGxwOwFoCiAlAUsgCgQQGZMBGAgBgDUQBdAXyA; Supplier 3 Name: Thegioiic; Supplier 3 SN: N/A; Supplier 3 URL: N/A; Value: 13 Ohm, 1/4 W
footprint resistor_0603
pins: 1, 2

## 0006031321
designator R?, comment 1.3 KOhm, 1/4 W
RES, size 0805, 1.3 KOhm, 1/4 W; Manufacture  Name: OEM; Rated Power: 1/4 W; Resistance Tolerant: +/-1%; Size: 0603; Mounting Technology: SMT; Datasheet: N/A; Resistance: 1.3 KOhm; Supplier 1 Name: Mouser; Supplier 1 SN: 755-SDR03EZPF1301; Supplier 1 URL: https://www.mouser.vn/ProductDetail/ROHM-Semiconductor/SDR03EZPF1301?qs=vvQtp7zwQdMzEJe7Zu8KXQ%3D%3D; Supplier 2 Name: Digi-Key; Supplier 2 SN: 1276-4655-2-ND; Supply 2 URL: https://www.digikey.com/en/products/detail/samsung-electro-mechanics/RC1608F132CS/3964962; Supplier 3 Name: Thegioiic; Supplier 3 SN: N/A; Supplier 3 URL: N/A; Manufacture  SN: OEM; Value: 1.3 KOhm, 1/4 W
footprint resistor_0603
pins: 1, 2

## 0006031325
designator R?, comment 1.3 KOhm, 1/4 W
RES, size 0805, 1.3 KOhm, 1/4 W; Manufacture  Name: Panasonic; Manufacture  SN: ERJ-PA3J132V; Rated Power: 1/4 W; Resistance Tolerant: +/-5%; Size: 0603; Mounting Technology: SMT; Datasheet: https://www.mouser.vn/datasheet/2/315/AOA0000C331-1141874.pdf; Resistance: 1.3 KOhm; Supplier 1 Name: Mouser; Supplier 1 SN: 667-ERJ-PA3J132V; Supplier 1 URL: https://www.mouser.vn/ProductDetail/Panasonic/ERJ-PA3J132V?qs=BzJM0faLVqVH6IcrChaVZw%3D%3D; Supplier 2 Name: Digi-Key; Supplier 2 SN: P1.3KBZTR-ND - Tape & Reel (TR); Supply 2 URL: https://www.digikey.com/en/products/detail/panasonic-electronic-components/ERJ-PA3J132V/5035986?s=N4IgTCBcDaIGxwOwFoCiAlAUsgCgQQGZMBGAsANRAF0BfIA; Supplier 3 Name: Thegioiic; Supplier 3 SN: N/A; Supplier 3 URL: N/A; Value: 1.3 KOhm, 1/4 W
footprint resistor_0603
pins: 1, 2

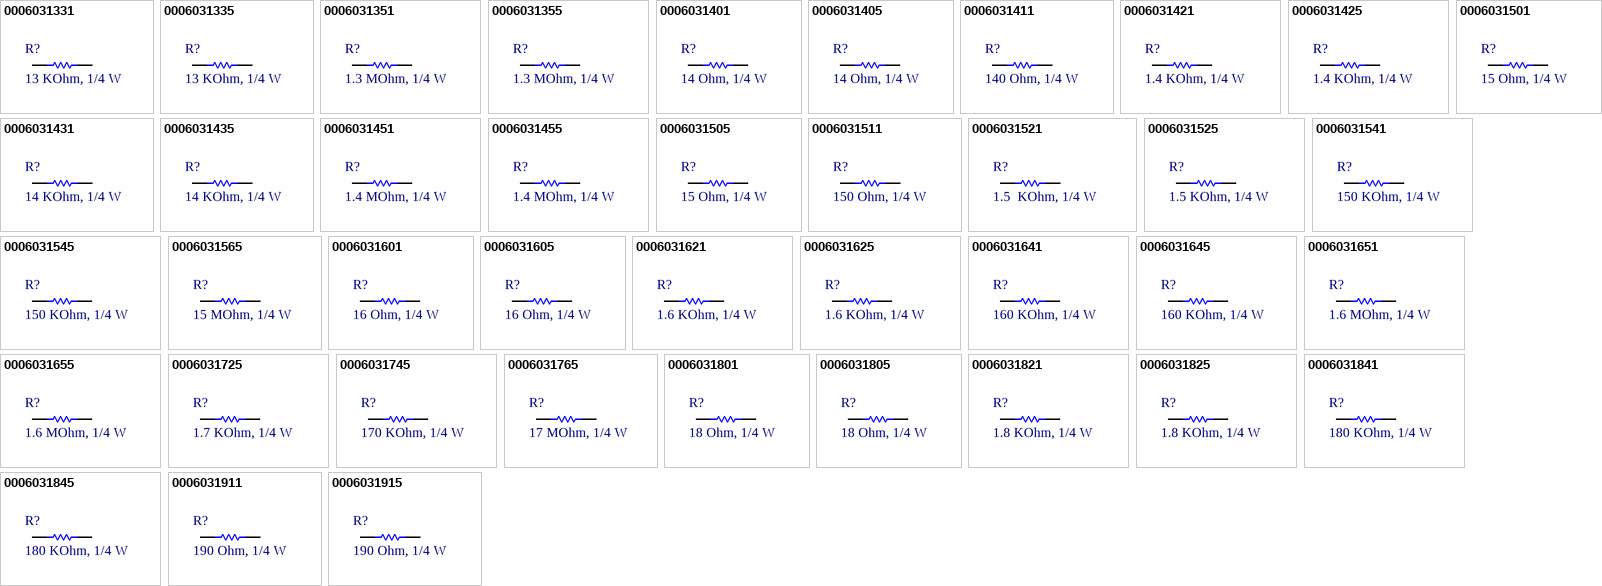
[diagram p1: symbols 0006031331 to 0006031915]

## 0006031331
designator R?, comment 13 KOhm, 1/4 W
RES, size 0805, 13 KOhm, 1/4 W; Manufacture  Name: OEM; Resistance: 13 KOhm; Resistance Tolerant: +/-1%; Rated Power: 1/4 W; Size: 0603; Mounting Technology: SMT; Supplier 1 Name: Mouser; Supplier 1 SN: 755-ESR03EZPF1302; Supplier 2 Name: Digi-Key; Supplier 2 SN: ESR03EZPF1302-ND; Supplier 1 URL: https://www.mouser.vn/ProductDetail/ROHM-Semiconductor/ESR03EZPF1302?qs=sGAEpiMZZMvdGkrng054tywGjayRHxH2BixSkNTZUClpiy4%252BI%252BxkXA%3D%3D; Supply 2 URL: https://www.digikey.com/en/products/detail/rohm-semiconductor/ESR03EZPF1302/4007159; Supplier 3 Name: Thegioiic; Supplier 3 SN: N/A; Supplier 3 URL: N/A; Datasheet: https://fscdn.rohm.com/en/products/databook/datasheet/passive/resistor/chip_resistor/esr-e.pdf; Manufacture  SN: OEM; Value: 13 KOhm, 1/4 W
footprint resistor_0603
pins: 1, 2

## 0006031335
designator R?, comment 13 KOhm, 1/4 W
RES, size 0805, 13 KOhm, 1/4 W; Manufacture  Name: Panasonic; Manufacture  SN: ERJ-PA3J133V; Rated Power: 1/4 W; Resistance: 13 KOhm; Resistance Tolerant: +/-5%; Size: 0603; Mounting Technology: SMT; Datasheet: https://www.mouser.vn/datasheet/2/315/AOA0000C331-1141874.pdf; Supplier 1 Name: Mouser; Supplier 1 SN: 667-ERJ-PA3J133V; Supplier 1 URL: https://www.mouser.vn/ProductDetail/Panasonic/ERJ-PA3J133V?qs=BzJM0faLVqWIEe8wMw2nxQ%3D%3D; Supplier 2 Name: Digi-Key; Supplier 2 SN: P13KBZTR-ND - Tape & Reel (TR); Supply 2 URL: https://www.digikey.com/en/products/detail/panasonic-electronic-components/ERJ-PA3J133V/5035987?s=N4IgTCBcDaIGxwOwFoCiAlAUsgCgQQGZMBGAggNRAF0BfIA; Supplier 3 Name: Thegioiic; Supplier 3 SN: N/A; Supplier 3 URL: https://www.thegioiic.com/dien-tro-13-kohm-0603-5; Value: 13 KOhm, 1/4 W
footprint resistor_0603
pins: 1, 2

## 0006031351
designator R?, comment 1.3 MOhm, 1/4 W
RES, size 0805, 1.3 MOhm, 1/4 W; Manufacture  Name: OEM; Resistance Tolerant: +/-1%; Rated Power: 1/4 W; Resistance: 1.3 MOhm; Size: 0603; Mounting Technology: SMT; Supplier 1 Name: Mouser; Supplier 1 SN: 755-ESR03EZPF1304; Supplier 2 Name: Digi-Key; Supplier 2 SN: ESR03EZPF1304-ND; Supplier 1 URL: https://www.mouser.vn/ProductDetail/ROHM-Semiconductor/ESR03EZPF1304?qs=sGAEpiMZZMvdGkrng054tywGjayRHxH2F68AQDlvJAEARD0qBpXaNA%3D%3D; Supply 2 URL: https://www.digikey.com/en/products/detail/rohm-semiconductor/ESR03EZPF1304/4007161?s=N4IgjCBcoExaBjKAzAhgGwM4FMA0IB7KAbXADYBWAFgGYQBdfABwBcoQBlFgJwEsA7AOYgAvvjrQQSSGix5CJcGBoRGIVuy58ho-GBgBOCJOmyc%2BIpFI0DMKhQbM2kTjwHCxIGAAYAHA5MUDHMFK3AAOhoAAgBZAHkACwBbTEd1ZxAAVX5eFjjkGOxUTABXbmxRTzgw8sxeTBYCbgYRIA; Supplier 3 Name: Thegioiic; Supplier 3 SN: N/A; Supplier 3 URL: N/A; Datasheet: https://fscdn.rohm.com/en/products/databook/datasheet/passive/resistor/chip_resistor/esr-e.pdf; Manufacture  SN: OEM; Value: 1.3 MOhm, 1/4 W
footprint resistor_0603
pins: 1, 2

## 0006031355
designator R?, comment 1.3 MOhm, 1/4 W
RES, size 0805, 1.3 MOhm, 1/4 W; Manufacture  Name: Panasonic; Manufacture  SN: ERJ-PA3J135V; Rated Power: 1/4 W; Resistance Tolerant: +/-5%; Size: 0603; Mounting Technology: SMT; Datasheet: https://www.mouser.vn/datasheet/2/315/Panasonic_Resistors_Thick_Film_Anti_Sulf_Anti_Surg-1825099.pdf; Resistance: 1.3 MOhm; Supplier 1 Name: Mouser; Supplier 1 SN: 667-ERJ-PA3J135V; Supplier 1 URL: https://www.mouser.vn/ProductDetail/Panasonic/ERJ-PA3J135V?qs=qSfuJ%252Bfl%2Fd43JlVrOpg6Sg%3D%3D; Supplier 2 Name: Digi-Key; Supplier 2 SN: P124100TR-ND - Tape & Reel (TR); Supply 2 URL: https://www.digikey.com/en/products/detail/panasonic-electronic-components/ERJ-PA3J135V/9694906?s=N4IgTCBcDaIGxwOwFoCiAlAUsgCgQQGZMBGAgVgDUQBdAXyA; Supplier 3 Name: Thegioiic; Supplier 3 SN: N/A; Supplier 3 URL: N/A; Value: 1.3 MOhm, 1/4 W
footprint resistor_0603
pins: 1, 2

## 0006031401
designator R?, comment 14 Ohm, 1/4 W
RES, size 0805, 14 Ohm, 1/4 W; Manufacture  Name: OEM; Resistance: 14 Ohm; Resistance Tolerant: +/-1%; Rated Power: 1/4 W; Size: 0603; Mounting Technology: SMT; Supplier 1 Name: Mouser; Supplier 1 SN: 755-ESR03EZPF14R0; Supplier 2 Name: Digi-Key; Supplier 2 SN: 511-ESR03EZPF14R0TR-ND 511-ESR03EZPF14R0CT-ND 511-ESR03EZPF14R0DKR-ND; Supplier 1 URL: https://www.mouser.vn/ProductDetail/ROHM-Semiconductor/ESR03EZPF14R0?qs=sGAEpiMZZMvdGkrng054txLI%2FDB4oIKDWIlgynysVFeNX%252Bd5gR98IA%3D%3D; Supply 2 URL: https://www.digikey.com/en/products/detail/rohm-semiconductor/ESR03EZPF14R0/15667414; Supplier 3 Name: Thegioiic; Supplier 3 SN: N/A; Supplier 3 URL: N/A; Datasheet: https://fscdn.rohm.com/en/products/databook/datasheet/passive/resistor/chip_resistor/esr-e.pdf; Manufacture  SN: OEM; Value: 14 Ohm, 1/4 W
footprint resistor_0603
pins: 1, 2

## 0006031405
designator R?, comment 14 Ohm, 1/4 W
RES, size 0805, 14 Ohm, 1/4 W; Manufacture  Name: OEM; Rated Power: 1/4 W; Resistance: 14 Ohm; Resistance Tolerant: +/-5%; Size: 0603; Mounting Technology: SMT; Datasheet: N/A; Supplier 1 Name: Mouser; Supplier 1 SN: N/A; Supplier 1 URL: N/A; Supplier 2 Name: Digi-Key; Supplier 2 SN: N/A; Supply 2 URL: N/A; Supplier 3 Name: Thegioiic; Supplier 3 SN: N/A; Supplier 3 URL: N/A; Manufacture  SN: OEM; Value: 14 Ohm, 1/4 W
footprint resistor_0603
pins: 1, 2

## 0006031411
designator R?, comment 140 Ohm, 1/4 W
RES, size 0805, 140 Ohm, 1/4 W; Manufacture  Name: OEM; Resistance: 140 Ohm; Resistance Tolerant: +/-1%; Rated Power: 1/4 W; Size: 0603; Mounting Technology: SMT; Supplier 1 Name: Mouser; Supplier 1 SN: 667-ERJ-PA3F1400V; Supplier 2 Name: Digi-Key; Supplier 2 SN: 10-ERJ-UP3F1400VTR-ND; Supplier 1 URL: https://www.mouser.vn/ProductDetail/Panasonic/ERJ-PA3F1400V?qs=sGAEpiMZZMvdGkrng054t6%2FAfIpq60YDUw0C6t6aFC9B4ZKoQojPVQ%3D%3D; Supply 2 URL: N/A; Supplier 3 Name: Thegioiic; Supplier 3 SN: N/A; Supplier 3 URL: N/A; Datasheet: https://api.pim.na.industrial.panasonic.com/file_stream/main/fileversion/4484; Manufacture  SN: OEM; Value: 140 Ohm, 1/4 W
footprint resistor_0603
pins: 1, 2

## 0006031421
designator R?, comment 1.4 KOhm, 1/4 W
RES, size 0805, 1.4 KOhm, 1/4 W; Manufacture  Name: OEM; Resistance Tolerant: +/-1%; Rated Power: 1/4 W; Resistance: 1.4 KOhm; Size: 0603; Mounting Technology: SMT; Supplier 1 Name: Mouser; Supplier 1 SN: 667-ERJ-UP3F1401V; Supplier 2 Name: Digi-Key; Supplier 2 SN: 10-ERJ-UP3F1401VTR-ND; Supplier 1 URL: https://www.mouser.vn/ProductDetail/Panasonic/ERJ-UP3F1401V?qs=sGAEpiMZZMvdGkrng054twq3eZrCFN89pBpe1a038m3v47HekkOiAg%3D%3D; Supply 2 URL: N/A; Supplier 3 Name: Thegioiic; Supplier 3 SN: N/A; Supplier 3 URL: N/A; Datasheet: https://api.pim.na.industrial.panasonic.com/file_stream/main/fileversion/4484; Manufacture  SN: OEM; Value: 1.4 KOhm, 1/4 W
footprint resistor_0603
pins: 1, 2

## 0006031425
designator R?, comment 1.4 KOhm, 1/4 W
RES, size 0805, 1.4 KOhm, 1/4 W; Manufacture  Name: OEM; Rated Power: 1/4 W; Resistance Tolerant: +/-5%; Size: 0603; Mounting Technology: SMT; Datasheet: N/A; Resistance: 1.4 KOhm; Supplier 1 Name: Mouser; Supplier 1 SN: N/A; Supplier 1 URL: N/A; Supplier 2 Name: Digi-Key; Supplier 2 SN: N/A; Supply 2 URL: N/A; Supplier 3 Name: Thegioiic; Supplier 3 SN: N/A; Supplier 3 URL: N/A; Manufacture  SN: OEM; Value: 1.4 KOhm, 1/4 W
footprint resistor_0603
pins: 1, 2

## 0006031431
designator R?, comment 14 KOhm, 1/4 W
RES, size 0805, 14 KOhm, 1/4 W; Manufacture  Name: OEM; Resistance: 14 KOhm; Resistance Tolerant: +/-1%; Rated Power: 1/4 W; Size: 0603; Mounting Technology: SMT; Supplier 1 Name: Mouser; Supplier 1 SN: 667-ERJ-UP3F1402V; Supplier 2 Name: Digi-Key; Supplier 2 SN: 10-ERJ-UP3F1402VTR-ND; Supplier 1 URL: https://www.mouser.vn/ProductDetail/Panasonic/ERJ-UP3F1402V?qs=sGAEpiMZZMvdGkrng054twq3eZrCFN898VaK5WHU92U0FyzYc7IlXQ%3D%3D; Supply 2 URL: N/A; Supplier 3 Name: Thegioiic; Supplier 3 SN: N/A; Supplier 3 URL: N/A; Datasheet: https://api.pim.na.industrial.panasonic.com/file_stream/main/fileversion/4484; Manufacture  SN: OEM; Value: 14 KOhm, 1/4 W
footprint resistor_0603
pins: 1, 2

## 0006031435
designator R?, comment 14 KOhm, 1/4 W
RES, size 0805, 14 KOhm, 1/4 W; Manufacture  Name: OEM; Rated Power: 1/4 W; Resistance: 14 KOhm; Resistance Tolerant: +/-5%; Size: 0603; Mounting Technology: SMT; Datasheet: N/A; Supplier 1 Name: Mouser; Supplier 1 SN: N/A; Supplier 1 URL: N/A; Supplier 2 Name: Digi-Key; Supplier 2 SN: N/A; Supply 2 URL: N/A; Supplier 3 Name: Thegioiic; Supplier 3 SN: N/A; Supplier 3 URL: N/A; Manufacture  SN: OEM; Value: 14 KOhm, 1/4 W
footprint resistor_0603
pins: 1, 2

## 0006031451
designator R?, comment 1.4 MOhm, 1/4 W
RES, size 0805, 1.4 MOhm, 1/4 W; Manufacture  Name: OEM; Resistance Tolerant: +/-1%; Rated Power: 1/4 W; Resistance: 1.4 MOhm; Size: 0603; Mounting Technology: SMT; Supplier 1 Name: Mouser; Supplier 1 SN: 791-MR06W1404FTL; Supplier 2 Name: Digi-Key; Supplier 1 URL: https://www.mouser.vn/ProductDetail/Walsin/MR06W1404FTL?qs=GedFDFLaBXEJcV7CwmDJPg%3D%3D; Supplier 2 SN: N/A; Supply 2 URL: N/A; Supplier 3 Name: Thegioiic; Supplier 3 SN: N/A; Supplier 3 URL: N/A; Datasheet: https://www.mouser.vn/datasheet/2/210/kamaya_watc_s_a0007468046_1-1736097.pdf; Manufacture  SN: OEM; Value: 1.4 MOhm, 1/4 W
footprint resistor_0603
pins: 1, 2

## 0006031455
designator R?, comment 1.4 MOhm, 1/4 W
RES, size 0805, 1.4 MOhm, 1/4 W; Manufacture  Name: OEM; Rated Power: 1/4 W; Resistance Tolerant: +/-5%; Size: 0603; Mounting Technology: SMT; Datasheet: N/A; Resistance: 1.4 MOhm; Supplier 1 Name: Mouser; Supplier 1 SN: N/A; Supplier 1 URL: N/A; Supplier 2 Name: Digi-Key; Supplier 2 SN: N/A; Supply 2 URL: N/A; Supplier 3 Name: Thegioiic; Supplier 3 SN: N/A; Supplier 3 URL: N/A; Manufacture  SN: OEM; Value: 1.4 MOhm, 1/4 W
footprint resistor_0603
pins: 1, 2

## 0006031501
designator R?, comment 15 Ohm, 1/4 W
RES, size 0805, 15 Ohm, 1/4 W; Manufacture  Name: OEM; Rated Power: 1/4 W; Resistance: 15 Ohm; Resistance Tolerant: +/-1%; Size: 0603; Mounting Technology: SMT; Datasheet: N/A; Supplier 1 Name: Mouser; Supplier 1 SN: 667-ERJ-UP3F15R0V; Supplier 1 URL: https://www.mouser.vn/ProductDetail/Panasonic/ERJ-UP3F15R0V?qs=GedFDFLaBXGQZcdT1wNdQA%3D%3D; Supplier 2 Name: Digi-Key; Supplier 2 SN: A129666TR-ND; Supply 2 URL: https://www.digikey.com/en/products/detail/te-connectivity-passive-product/CRGCQ0603F15R/8576268; Supplier 3 Name: Thegioiic; Supplier 3 SN: N/A; Supplier 3 URL: N/A; Manufacture  SN: OEM; Value: 15 Ohm, 1/4 W
footprint resistor_0603
pins: 1, 2

## 0006031505
designator R?, comment 15 Ohm, 1/4 W
RES, size 0805, 15 Ohm, 1/4 W; Manufacture  Name: Panasonic; Manufacture  SN: ERJ-PA3J150V; Rated Power: 1/4 W; Resistance: 15 Ohm; Resistance Tolerant: +/-5%; Size: 0603; Mounting Technology: SMT; Datasheet: https://www.mouser.vn/datasheet/2/315/AOA0000C331-1141874.pdf; Supplier 1 Name: Mouser; Supplier 1 SN: 667-ERJ-PA3J150V; Supplier 1 URL: https://www.mouser.vn/ProductDetail/Panasonic/ERJ-PA3J150V?qs=BzJM0faLVqWQrQpdpn4WSg%3D%3D; Supplier 2 Name: Digi-Key; Supplier 2 SN: P15.00BZTR-ND - Tape & Reel (TR); Supply 2 URL: https://www.digikey.com/en/products/detail/panasonic-electronic-components/ERJ-PA3J150V/5035989?s=N4IgTCBcDaIGxwOwFoCiAlAUsgCgQQGZMBGAVgAYA1EAXQF8g; Supplier 3 Name: Thegioiic; Supplier 3 SN: N/A; Supplier 3 URL: https://www.thegioiic.com/dien-tro-15-ohm-0603-5-; Value: 15 Ohm, 1/4 W
footprint resistor_0603
pins: 1, 2

## 0006031511
designator R?, comment 150 Ohm, 1/4 W
RES, size 0805, 150 Ohm, 1/4 W; Manufacture  Name: OEM; Resistance: 150 Ohm; Resistance Tolerant: +/-1%; Rated Power: 1/4 W; Size: 0603; Mounting Technology: SMT; Supplier 1 Name: Mouser; Supplier 1 SN: 667-ERJ-UP3F1500V; Supplier 2 Name: Digi-Key; Supplier 2 SN: 10-ERJ-UP3F1500VTR-ND 10-ERJ-UP3F1500VCT-ND 10-ERJ-UP3F1500VDKR-ND; Supplier 1 URL: https://www.mouser.vn/ProductDetail/Panasonic/ERJ-UP3F1500V?qs=sGAEpiMZZMvdGkrng054twq3eZrCFN89aN9HHZ6KB345kfMKb%252BB8mQ%3D%3D; Supply 2 URL: N/A; Supplier 3 Name: Thegioiic; Supplier 3 SN: N/A; Supplier 3 URL: N/A; Datasheet: https://api.pim.na.industrial.panasonic.com/file_stream/main/fileversion/4484; Manufacture  SN: OEM; Value: 150 Ohm, 1/4 W
footprint resistor_0603
pins: 1, 2

## 0006031521
designator R?, comment 1.5  KOhm, 1/4 W
RES, size 0805, 1.5  KOhm, 1/4 W; Manufacture  Name: OEM; Rated Power: 1/4 W; Resistance Tolerant: +/-1%; Size: 0603; Mounting Technology: SMT; Datasheet: N/A; Resistance: 1.5  KOhm; Supplier 1 Name: Mouser; Supplier 1 SN: 755-SFR03EZPF1501; Supplier 1 URL: https://www.mouser.vn/ProductDetail/ROHM-Semiconductor/SFR03EZPF1501?qs=byeeYqUIh0NryWvnzlukLQ%3D%3D; Supplier 2 Name: Digi-Key; Supplier 2 SN: 13-RC0603FR-071R5LTR-ND; Supply 2 URL: https://www.digikey.com/en/products/detail/yageo/RC0603FR-071R5L/5918292; Supplier 3 Name: Thegioiic; Supplier 3 SN: N/A; Supplier 3 URL: N/A; Manufacture  SN: OEM; Value: 1.5  KOhm, 1/4 W
footprint resistor_0603
pins: 1, 2

## 0006031525
designator R?, comment 1.5 KOhm, 1/4 W
RES, size 0805, 1.5 KOhm, 1/4 W; Manufacture  Name: Panasonic; Rated Power: 1/4 W; Resistance Tolerant: +/-5%; Size: 0603; Mounting Technology: SMT; Datasheet: https://www.mouser.vn/datasheet/2/315/Panasonic_Resistors_Thick_Film_Anti_Sulf_Anti_Surg-1825099.pdf; Resistance: 1.5 KOhm; Supplier 1 Name: Mouser; Supplier 1 SN: 667-ERJ-PA3J152V; Supplier 1 URL: https://www.mouser.vn/ProductDetail/Panasonic/ERJ-PA3J152V?qs=BzJM0faLVqVoRX2ZXjooUw%3D%3D; Supplier 2 Name: Digi-Key; Supplier 2 SN: P1.5KBZTR-ND - Tape & Reel (TR); Supply 2 URL: https://www.digikey.com/en/products/detail/panasonic-electronic-components/ERJ-PA3J152V/5035991?s=N4IgTCBcDaIGxwOwFoCiAlAUsgCgQQGZMBGAVjADUQBdAXyA; Supplier 3 Name: Thegioiic; Supplier 3 SN: N/A; Supplier 3 URL: N/A; Manufacture  SN: https://www.mouser.vn/ProductDetail/Panasonic/ERJ-PA3J152V?qs=BzJM0faLVqVoRX2ZXjooUw%3D%3D; Value: 1.5 KOhm, 1/4 W
footprint resistor_0603
pins: 1, 2

## 0006031541
designator R?, comment 150 KOhm, 1/4 W
RES, size 0805, 150 KOhm, 1/4 W; Manufacture  Name: OEM; Resistance Tolerant: +/-1%; Rated Power: 1/4 W; Resistance: 150 KOhm; Size: 0603; Mounting Technology: SMT; Supplier 1 Name: Mouser; Supplier 1 SN: 71-RCS0603150KFKEA; Supplier 2 Name: Digi-Key; Supplier 2 SN: 541-RCS0603150KFKEATR-ND 541-RCS0603150KFKEACT-ND 541-RCS0603150KFKEADKR-ND; Supplier 1 URL: https://www.mouser.vn/ProductDetail/Vishay-Dale/RCS0603150KFKEA?qs=sGAEpiMZZMvdGkrng054t9clqp6gtJJdfH%252BXqq0SHQPcFX9vWgSfoA%3D%3D; Supply 2 URL: https://www.digikey.com/en/products/detail/vishay-dale/RCS0603150KFKEA/5868719; Supplier 3 Name: Thegioiic; Supplier 3 SN: N/A; Supplier 3 URL: N/A; Datasheet: https://www.vishay.com/docs/20065/rcse3.pdf; Manufacture  SN: OEM; Value: 150 KOhm, 1/4 W
footprint resistor_0603
pins: 1, 2

## 0006031545
designator R?, comment 150 KOhm, 1/4 W
RES, size 0805, 150 KOhm, 1/4 W; Manufacture  Name: Panasonic; Manufacture  SN: ERJ-PA3J154V; Rated Power: 1/4 W; Resistance Tolerant: +/-5%; Size: 0603; Mounting Technology: SMT; Datasheet: https://www.mouser.vn/datasheet/2/315/AOA0000C331-1141874.pdf; Resistance: 150 KOhm; Supplier 1 Name: Mouser; Supplier 1 SN: 667-ERJ-PA3J154V; Supplier 1 URL: https://www.mouser.vn/ProductDetail/Panasonic/ERJ-PA3J154V?qs=BzJM0faLVqUQ0OxnTOD5Tw%3D%3D; Supplier 2 Name: Digi-Key; Supplier 2 SN: P150KBZTR-ND - Tape & Reel (TR); Supply 2 URL: https://www.digikey.com/en/products/detail/panasonic-electronic-components/ERJ-PA3J154V/5035993?s=N4IgTCBcDaIKICUBSBaACgQQMxIIwFYAWANRAF0BfIA; Supplier 3 Name: Thegioiic; Supplier 3 SN: N/A; Supplier 3 URL: https://www.thegioiic.com/dien-tro-150-kohm-0603-5; Value: 150 KOhm, 1/4 W
footprint resistor_0603
pins: 1, 2

## 0006031565
designator R?, comment 15 MOhm, 1/4 W
RES, size 0805, 15 MOhm, 1/4 W; Manufacture  Name: OEM; Rated Power: 1/4 W; Resistance: 15 MOhm; Resistance Tolerant: +/-5%; Size: 0603; Mounting Technology: SMT; Datasheet: N/A; Supplier 1 Name: Mouser; Supplier 1 SN: N/A; Supplier 1 URL: N/A; Supplier 2 Name: Digi-Key; Supplier 2 SN: N/A; Supply 2 URL: N/A; Supplier 3 Name: Thegioiic; Supplier 3 SN: N/A; Supplier 3 URL: N/A; Manufacture  SN: OEM; Value: 15 MOhm, 1/4 W
footprint resistor_0603
pins: 1, 2